# Altium footprint library JTI.PcbLib: 6 footprints
Each footprint in its own frame and in the unit in brackets; x right, y up, seen from the top. Pads: shape width x height; smd on the part's side, far side on the other; paste and mask are expansions set on the pad; w line width, h text height; cw(c..) or ccw(c..) is an arc to the next point about the centre after c.
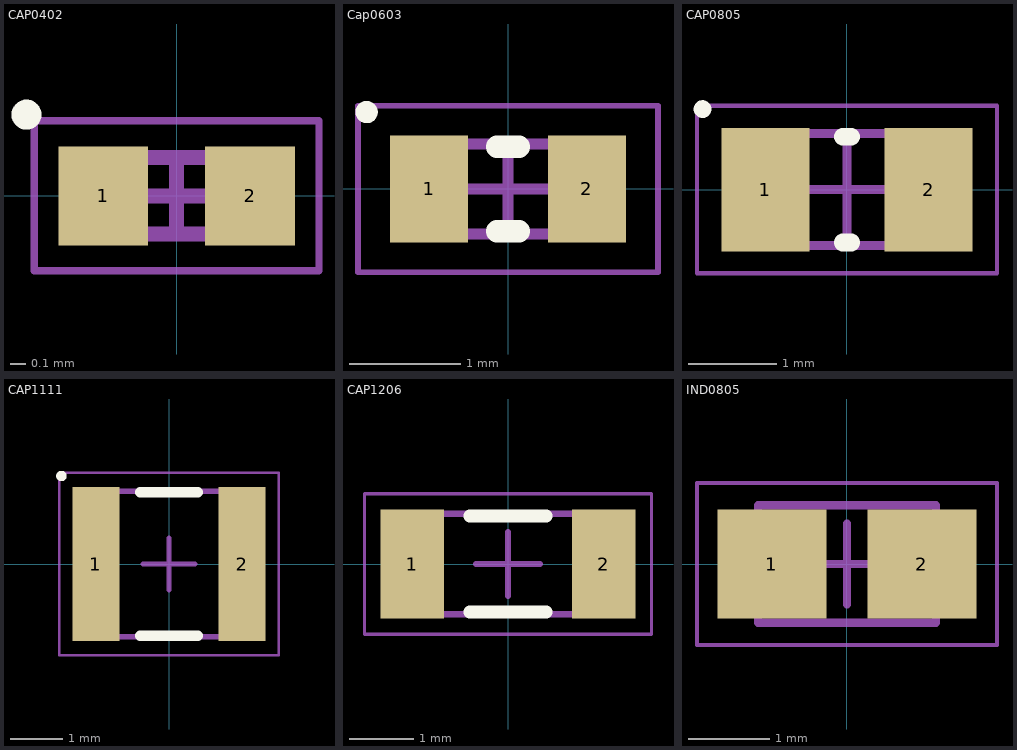
[diagram p0: the footprints below, top view; thin cyan lines are the x and y axes]

## CAP0402 [mm] "Chip Capacitor, 2-Leads, Body 1.02x0.51mm, IPC Medium Density"
height 0.51
pads (2):
  rect 0.6x0.66 smd: 1(-0.49,0) 2(0.49,0)
Top Overlay:
  circle w0.1: c-1.002,0.542 r0.05
Mechanical 13:
  lines w0.1: -0.51,-0.255 0.51,-0.255 0.51,0.255 -0.51,0.255 -0.51,-0.255
Mechanical 15:
  lines w0.05: -0.95,-0.5 0.95,-0.5 0.95,0.5 -0.95,0.5 -0.95,-0.5
  lines w0.1: -0.255,0 0.255,0 ; 0,-0.255 0,0.255
3D body: height 0.51, standoff 0, extent 0.26,-0.255 0.51,0.255
3D body: height 0.51, standoff 0, extent -0.51,-0.255 -0.26,0.255
3D body: height 0.51, standoff 0, extent -0.26,-0.255 0.26,0.255

## Cap0603 [mm] "Chip Capacitor, 2-Leads, Body 1.57x0.81mm, IPC Medium Density"
height 0.76
pads (2):
  rect 0.7x0.96 smd: 1(-0.71,0) 2(0.71,0)
Top Overlay:
  circle w0.1: c-1.272,0.692 r0.05
  lines w0.2: -0.1,-0.38 0.1,-0.38 ; -0.1,0.38 0.1,0.38
Mechanical 13:
  lines w0.1: -0.785,-0.405 0.785,-0.405 0.785,0.405 -0.785,0.405 -0.785,-0.405
Mechanical 15:
  lines w0.05: -1.35,-0.75 1.35,-0.75 1.35,0.75 -1.35,0.75 -1.35,-0.75
  lines w0.1: -0.405,0 0.405,0 ; 0,-0.405 0,0.405
3D body: height 0.76, standoff 0, extent 0.435,-0.405 0.785,0.405
3D body: height 0.76, standoff 0, extent -0.785,-0.405 -0.435,0.405
3D body: height 0.76, standoff 0, extent -0.435,-0.405 0.435,0.405

## CAP0805 [mm] "Chip Capacitor, 2-Leads, Body 2.03x1.27mm, IPC Medium Density"
height 1.4
pads (2):
  rect 1x1.4 smd: 1(-0.925,0) 2(0.925,0)
Top Overlay:
  circle w0.1: c-1.637,0.912 r0.05
  lines w0.2: -0.05,-0.6 0.05,-0.6 ; -0.05,0.6 0.05,0.6
Mechanical 13:
  lines w0.1: -1.015,-0.635 -1.015,0.635 1.015,0.635 1.015,-0.635 -1.015,-0.635
Mechanical 15:
  lines w0.05: -1.7,-0.95 -1.7,0.95 1.7,0.95 1.7,-0.95 -1.7,-0.95
  lines w0.1: -0.5,0 0.5,0 ; 0,-0.5 0,0.5
3D body: height 1.4, standoff 0, extent -0.505,-0.635 0.505,0.635
3D body: height 1.4, standoff 0, extent -1.015,-0.635 -0.505,0.635
3D body: height 1.4, standoff 0, extent 0.505,-0.635 1.015,0.635

## CAP1111 [mm] "Chip Capacitor, 2-Leads, Body 2.79x2.79mm, IPC Medium Density"
height 2.59
pads (2):
  rect 0.9x2.95 smd: 1(-1.4,0) 2(1.4,0)
Top Overlay:
  circle w0.1: c-2.062,1.687 r0.05
  lines w0.2: -0.55,-1.375 0.55,-1.375 ; -0.55,1.375 0.55,1.375
Mechanical 13:
  lines w0.1: -1.395,-1.395 1.395,-1.395 1.395,1.395 -1.395,1.395 -1.395,-1.395
Mechanical 15:
  lines w0.05: -2.1,-1.75 2.1,-1.75 2.1,1.75 -2.1,1.75 -2.1,-1.75
  lines w0.1: -0.5,0 0.5,0 ; 0,-0.5 0,0.5
3D body: height 2.59, standoff 0, extent 1.015,-1.395 1.395,1.395
3D body: height 2.59, standoff 0, extent -1.395,-1.395 -1.015,1.395
3D body: height 2.59, standoff 0, extent -1.015,-1.395 1.015,1.395

## CAP1206 [mm] "Chip Capacitor, 2-Leads, Body 3.17x1.57mm, IPC Medium Density"
height 1.78
pads (2):
  rect 1x1.7 smd: 1(-1.5,0) 2(1.5,0)
Top Overlay:
  lines w0.2: -0.6,-0.75 0.6,-0.75 ; -0.6,0.75 0.6,0.75
Mechanical 13:
  lines w0.1: -1.585,-0.785 1.585,-0.785 1.585,0.785 -1.585,0.785 -1.585,-0.785
Mechanical 15:
  lines w0.05: -2.25,-1.1 2.25,-1.1 2.25,1.1 -2.25,1.1 -2.25,-1.1
  lines w0.1: -0.5,0 0.5,0 ; 0,-0.5 0,0.5
3D body: height 1.78, standoff 0, extent 1.075,-0.785 1.585,0.785
3D body: height 1.78, standoff 0, extent -1.585,-0.785 -1.075,0.785
3D body: height 1.78, standoff 0, extent -1.075,-0.785 1.075,0.785

## IND0805 [mm] "Molded Inductor, 2-Leads, Body 2.00x1.25mm, IPC Medium Density"
height 1.4
pads (2):
  rect 1.35x1.35 smd: 1(-0.925,0) 2(0.925,0)
Mechanical 13:
  lines w0.1: -1.1,-0.725 1.1,-0.725 1.1,0.725 -1.1,0.725 -1.1,-0.725
Mechanical 15:
  lines w0.05: -1.85,-1 1.85,-1 1.85,1 -1.85,1 -1.85,-1
  lines w0.1: -0.5,0 0.5,0 ; 0,-0.5 0,0.5
3D body "INDM2012X14N.step": height 1.4, standoff 0, extent -1.32,-0.725 1.32,0.725